# EAGLE library part Z80 (library oldschool)
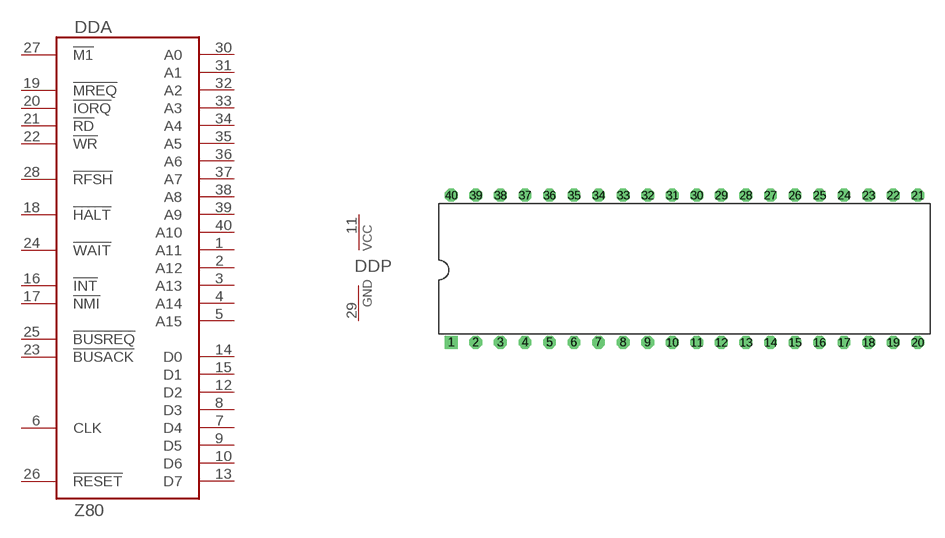
[diagram p3: symbol with the pads of DIL40; footprint DIL40]

Designator prefix DD; gates A=Z80 P=PWRN

## Z80  [DIL40]
1  A:A11  out
2  A:A12  out
3  A:A13  out
4  A:A14  out
5  A:A15  out
6  A:CLK  in
7  A:D4
8  A:D3
9  A:D5
10  A:D6
11  P:VCC  pwr
12  A:D2
13  A:D7
14  A:D0
15  A:D1
16  A:!INT  in
17  A:!NMI  in
18  A:!HALT  out
19  A:!MREQ  out
20  A:!IORQ  out
21  A:!RD  out
22  A:!WR  out
23  A:!BUSACK  out
24  A:!WAIT  in
25  A:!BUSREQ  in
26  A:!RESET  in
27  A:!M1  out
28  A:!RFSH  out
29  P:GND  pwr
30  A:A0  out
31  A:A1  out
32  A:A2  out
33  A:A3  out
34  A:A4  out
35  A:A5  out
36  A:A6  out
37  A:A7  out
38  A:A8  out
39  A:A9  out
40  A:A10  out

## Footprint DIL40 (pad centres in mm)
Dual In Line Package
drill 0.813 square: 1 -24.13,-7.62
drill 0.813 octagon: 2 -21.59,-7.62; 3 -19.05,-7.62; 4 -16.51,-7.62; 5 -13.97,-7.62; 6 -11.43,-7.62; 7 -8.89,-7.62; 8 -6.35,-7.62; 9 -3.81,-7.62; 10 -1.27,-7.62; 11 1.27,-7.62; 12 3.81,-7.62; 13 6.35,-7.62; 14 8.89,-7.62; 15 11.43,-7.62; 16 13.97,-7.62; 17 16.51,-7.62; 18 19.05,-7.62; 19 21.59,-7.62; 20 24.13,-7.62; 21 24.13,7.62; 22 21.59,7.62; 23 19.05,7.62; 24 16.51,7.62; 25 13.97,7.62; 26 11.43,7.62; 27 8.89,7.62; 28 6.35,7.62; 29 3.81,7.62; 30 1.27,7.62; 31 -1.27,7.62; 32 -3.81,7.62; 33 -6.35,7.62; 34 -8.89,7.62; 35 -11.43,7.62; 36 -13.97,7.62; 37 -16.51,7.62; 38 -19.05,7.62; 39 -21.59,7.62; 40 -24.13,7.62